# Altium footprint library LED.PcbLib: 29 footprints (part 2 of 2)
Each footprint in its own frame and in the unit in brackets; x right, y up, seen from the top. Pads: shape width x height; smd on the part's side, far side on the other; paste and mask are expansions set on the pad; w line width, h text height; cw(c..) or ccw(c..) is an arc to the next point about the centre after c.
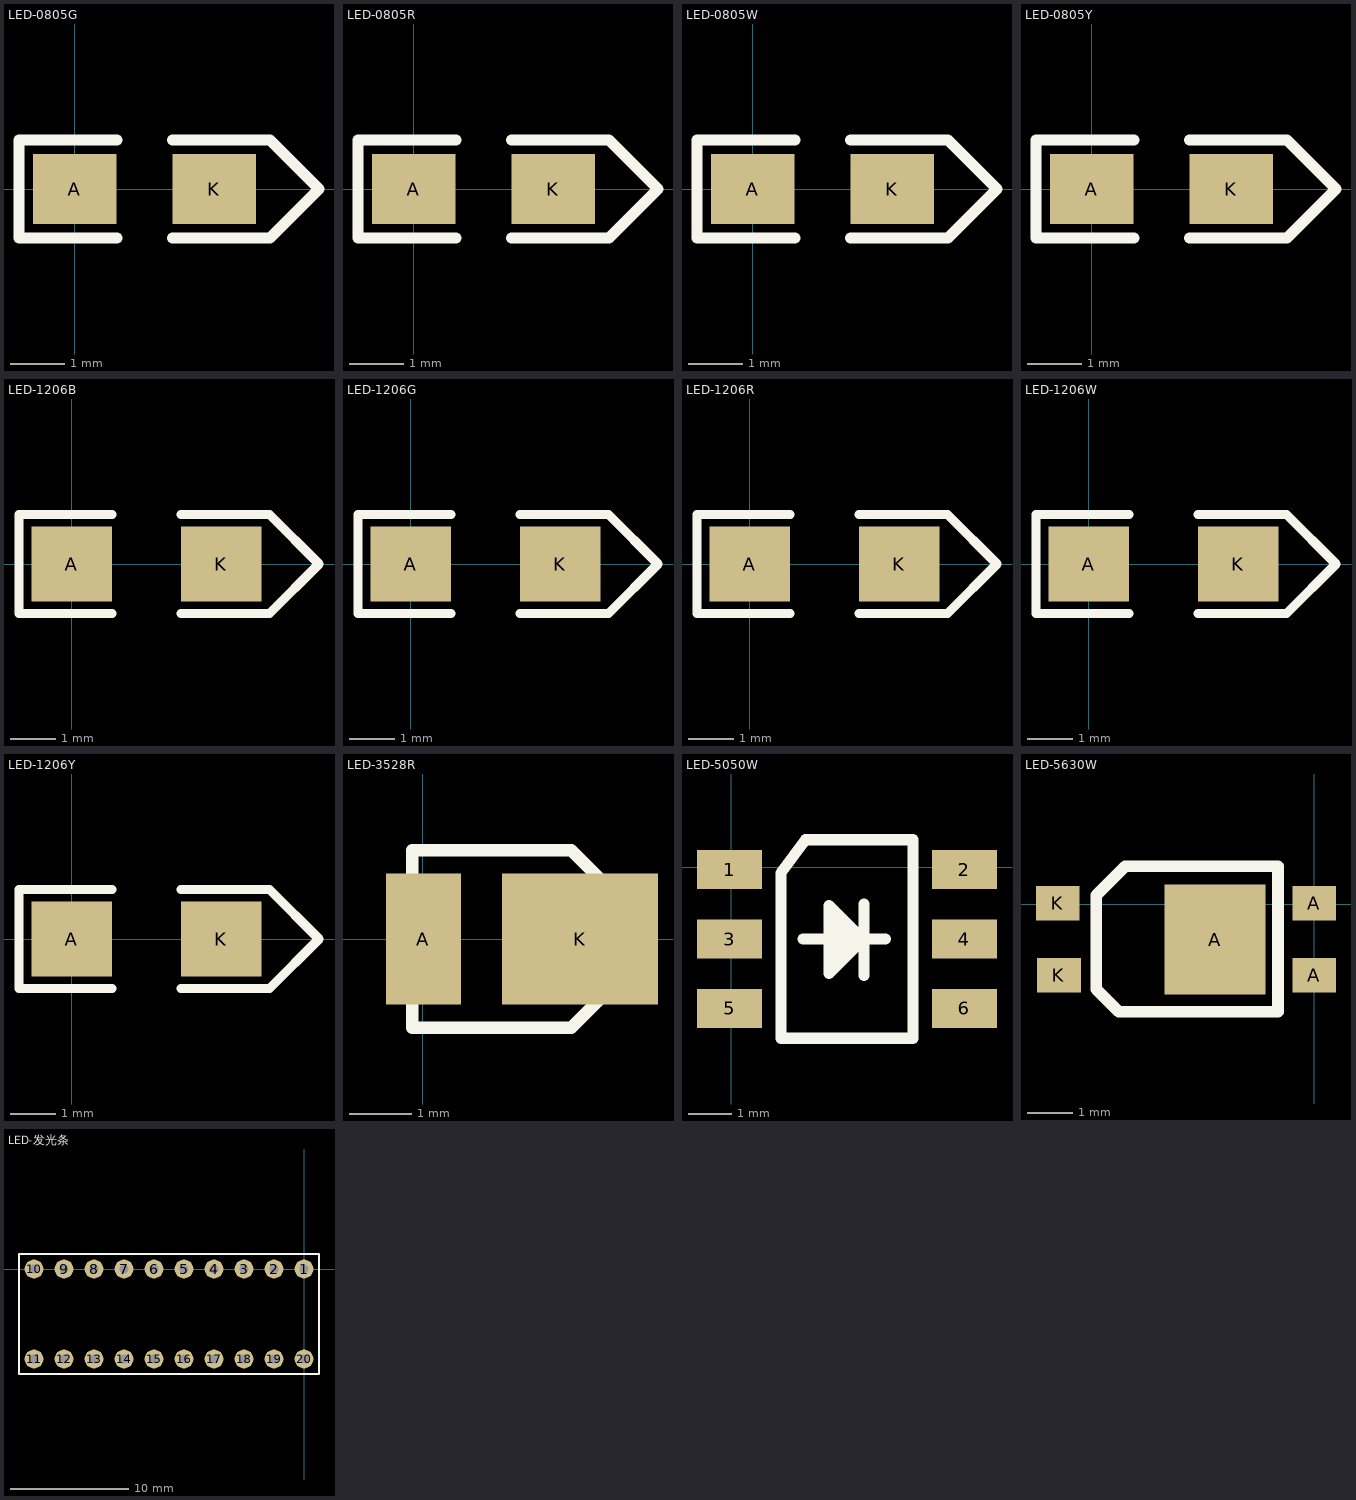
[diagram p1: the footprints below, top view; thin cyan lines are the x and y axes]

## LED-0805G [mil]
pads (2):
  rect 60x50 smd: A(0,0) K(100,0)
Top Overlay:
  lines w8: 30,-35 -40,-35 -40,35 30,35 ; 70,-35 140,-35 175,0 140,35 70,35
3D body "12.STEP": height 31.69, standoff -0.04, extent 10.63,-24.29 89.37,25

## LED-0805R [mil]
pads (2):
  rect 60x50 smd: A(0,0) K(100,0)
Top Overlay:
  lines w8: 30,-35 -40,-35 -40,35 30,35 ; 70,-35 140,-35 175,0 140,35 70,35
3D body "11.STEP": height 31.69, standoff -0.04, extent 10.63,-24.29 89.37,25

## LED-0805W [mil]
pads (2):
  rect 60x50 smd: A(0,0) K(100,0)
Top Overlay:
  lines w8: 30,-35 -40,-35 -40,35 30,35 ; 70,-35 140,-35 175,0 140,35 70,35
3D body "10.STEP": height 31.69, standoff -0.04, extent 10.64,-24.64 89.38,24.65

## LED-0805Y [mil]
pads (2):
  rect 60x50 smd: A(0,0) K(100,0)
Top Overlay:
  lines w8: 30,-35 -40,-35 -40,35 30,35 ; 70,-35 140,-35 175,0 140,35 70,35
3D body "m.STEP": height 31.69, standoff -0.04, extent 10.63,-26.12 89.37,23.17

## LED-1206B [mil]
pads (2):
  rect 70x65 smd: A(0,0) K(130,0)
Top Overlay:
  lines w8: 35,-43 -46,-43 -46,43 -44,43 35,43 ; 95,-43 172,-43 215,0 172,43 95,43
3D body "8.STEP": height 39.57, standoff -0.04, extent -3.03,-30 123.03,33.07

## LED-1206G [mil]
pads (2):
  rect 70x65 smd: A(0,0) K(130,0)
Top Overlay:
  lines w8: 35,-43 -46,-43 -46,43 -44,43 35,43 ; 95,-43 172,-43 215,0 172,43 95,43
3D body "7.STEP": height 39.57, standoff -0.04, extent 6.97,-30 133.03,33.07

## LED-1206R [mil]
pads (2):
  rect 70x65 smd: A(0,0) K(130,0)
Top Overlay:
  lines w8: 35,-43 -46,-43 -46,43 -44,43 35,43 ; 95,-43 172,-43 215,0 172,43 95,43
3D body "6.STEP": height 39.57, standoff -0.04, extent 1.97,-31.53 128.04,31.54

## LED-1206W [mil]
pads (2):
  rect 70x65 smd: A(0,0) K(130,0)
Top Overlay:
  lines w8: 35,-43 -46,-43 -46,43 -44,43 35,43 ; 95,-43 172,-43 215,0 172,43 95,43
3D body "5.STEP": height 39.57, standoff -0.04, extent 0,-30 126.06,33.07

## LED-1206Y [mil]
pads (2):
  rect 70x65 smd: A(0,0) K(130,0)
Top Overlay:
  lines w8: 35,-43 -46,-43 -46,43 -44,43 35,43 ; 95,-43 172,-43 215,0 172,43 95,43
3D body "4.STEP": height 39.57, standoff -0.04, extent -3.03,-33.07 123.03,30

## LED-3528R [mm]
pads (2):
  rect 1.2x2.1 smd: A(0.013,0)
  rect 2.5x2.1 smd: K(2.527,0)
Top Overlay:
  lines w0.2: -0.165,-1.422 -0.165,1.422 2.388,1.422 3.34,0.47 3.34,-0.47 2.388,-1.422 -0.165,-1.422
3D body "3.STEP": height 1.95, standoff 0.05, extent -0.254,-1.4 3.246,1.4

## LED-5050W [mil]
pads (6):
  rect 59.06x35.43 smd: 1(-1.5,-2) 2(211.5,-2) 3(-1.5,-65) 4(211.5,-65) 5(-1.5,-128) 6(211.5,-128)
Top Overlay:
  lines w10: 65,-65 140,-65 ; 95,-43 96,-82 115,-65 105,-55 105,-65 105,-75 ; 119,-65.8 88.6,-96.2 88.6,-34.5 120.6,-66.5 ; 120.6,-98.1 120.6,-33.3 ; 45,-155 165,-155 165,25 67.5,25 45,-5 45,-155
Mechanical 15:
  circle w1.97: c105,-65 r13.78
  lines w1.97: 85.31,-65 124.69,-65 ; 105,-84.69 105,-45.31
3D body "2.STEP": height 64.96, standoff 1.97, extent -1.3,-161.85 211.3,35

## LED-5630W [mm]
pads (5):
  rect 2.2x2.4 smd: A(-2.159,-0.768)
  rect 0.95x0.75 smd: A(0,-1.543) A(0,0.019) K(-5.588,0.019) K(-5.563,-1.543)
Top Overlay:
  lines w0.254: -4.75,-1.854 -4.75,0.197 -4.115,0.832 -0.787,0.832 -0.787,-2.343 -4.261,-2.343 -4.75,-1.854
3D body "1.STEP": height 0.95, standoff 0.05, extent -5.567,-2.286 0.233,0.714

## LED-发光条 [mm]
pads (20):
  round 1.6 hole 0.8: 1(0,0) 2(-2.54,0) 3(-5.08,0) 4(-7.62,0) 5(-10.16,0) 6(-12.7,0) 7(-15.24,0) 8(-17.78,0) 9(-20.32,0) 10(-22.86,0) 11(-22.86,-7.62) 12(-20.32,-7.62) 13(-17.78,-7.62) 14(-15.24,-7.62) 15(-12.7,-7.62) 16(-10.16,-7.62) 17(-7.62,-7.62) 18(-5.08,-7.62) 19(-2.54,-7.62) 20(0,-7.62)
Top Overlay:
  lines w0.2: -24.13,-8.89 1.27,-8.89 1.27,1.27 -24.13,1.27 -24.13,-8.89
3D body "User Library-LED_BAR_10.STEP": height 7.3, standoff -6.5, extent -24.13,-8.89 1.27,1.27